# Altium footprint library BOURNS_3296.PcbLib: 4 footprints
Each footprint in its own frame and in the unit in brackets; x right, y up, seen from the top. Pads: shape width x height; smd on the part's side, far side on the other; paste and mask are expansions set on the pad; w line width, h text height; cw(c..) or ccw(c..) is an arc to the next point about the centre after c.
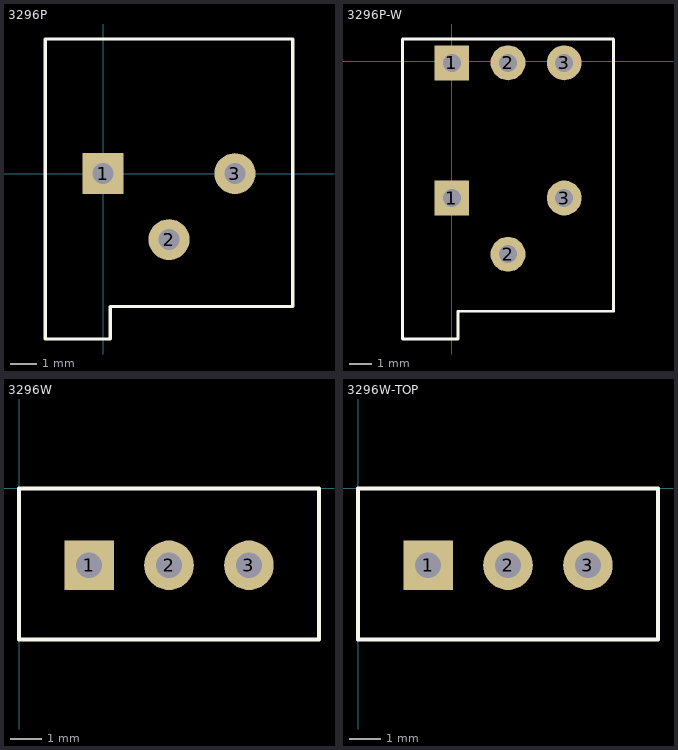
[diagram p0: the footprints below, top view; thin cyan lines are the x and y axes]

## 3296P [mil]
pads (3):
  rect 62x62 hole 32: 1(0,0)
  round 62 hole 32: 2(100,-100) 3(200,0)
Top Overlay:
  lines w5: -87.5,-250.72 10.92,-250.72 10.92,-201.51 287.5,-201.51 287.5,204 -87.5,204 -87.5,-250.72
3D body "User Library-bourns 3296 pot (1).step": height 212.64, standoff -302.76, extent -89,-251.36 286.2,203.36

## 3296P-W [mil]
pads (6):
  rect 62x62 hole 32: 1(0,-243.37) 1(0,-3)
  round 62 hole 32: 2(100,-343.37) 2(100,-3) 3(200,-243.37) 3(200,-3)
Top Overlay:
  lines w5: -87.5,-494.09 10.92,-494.09 10.92,-444.88 287.5,-444.88 287.5,39.37 -87.5,39.37 -87.5,-494.09
3D body "User Library-bourns 3296 pot (1).step": height 212.64, standoff -302.76, extent -89,-494.73 286.2,-40.01

## 3296W [mil]
pads (3):
  rect 62x62 hole 32: 1(87.6,-96.06)
  round 62 hole 32: 2(187.6,-96.06) 3(287.6,-96.06)
Top Overlay:
  lines w5: 0,-188.98 375.2,-188.98 375.2,0 0,0 0,-188.98
3D body "CircuitWorks-CERMET TRIMMER SINGLE TURN 10MM 500MW SIDE ADJUST 3386W.step": height 375.2, standoff -196.85, extent 1,-190.06 376.2,0.09

## 3296W-TOP [mil]
pads (3):
  rect 62x62 hole 32: 1(87.6,-96.06)
  round 62 hole 32: 2(187.6,-96.06) 3(287.6,-96.06)
Top Overlay:
  lines w5: 0,-188.98 375.2,-188.98 375.2,0 0,0 0,-188.98
3D body "3296W.stp": height 453.7, standoff -253.3, extent 0,-190 375,0